# EAGLE library part TINY_7_SEG_LCD (library Tiny_7_seg_LCD)
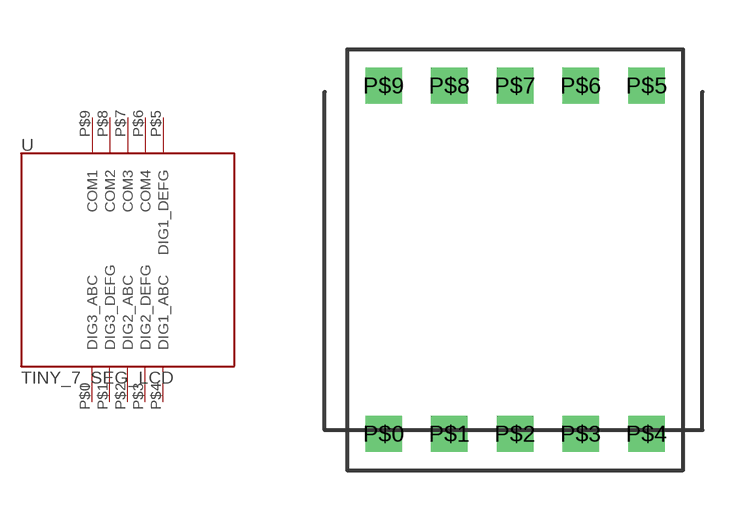
[diagram p0: symbol with the pads of TINY_7_SEG_LCD; footprint TINY_7_SEG_LCD]

Designator prefix -

## TINY_7_SEG_LCD  [TINY_7_SEG_LCD]
P$0  DIG3_ABC
P$1  DIG3_DEFG
P$2  DIG2_ABC
P$3  DIG2_DEFG
P$4  DIG1_ABC
P$5  DIG1_DEFG
P$6  COM4
P$7  COM3
P$8  COM2
P$9  COM1

## Footprint TINY_7_SEG_LCD (pad centres in mm)
drill 0.6 square: P$0 1.797,-0.115; P$1 3.797,-0.115; P$2 5.797,-0.115; P$3 7.797,-0.115; P$4 9.797,-0.115; P$5 9.797,10.485; P$6 7.797,10.485; P$7 5.797,10.485; P$8 3.797,10.485; P$9 1.797,10.485